# EAGLE library part M-064319 (library con-erni)
50 pol. male SMC CONNECTOR vertical , type Q, low profile Source: http://www.erni.com/DB/PDF-Drawing/SMC/064319.pdf
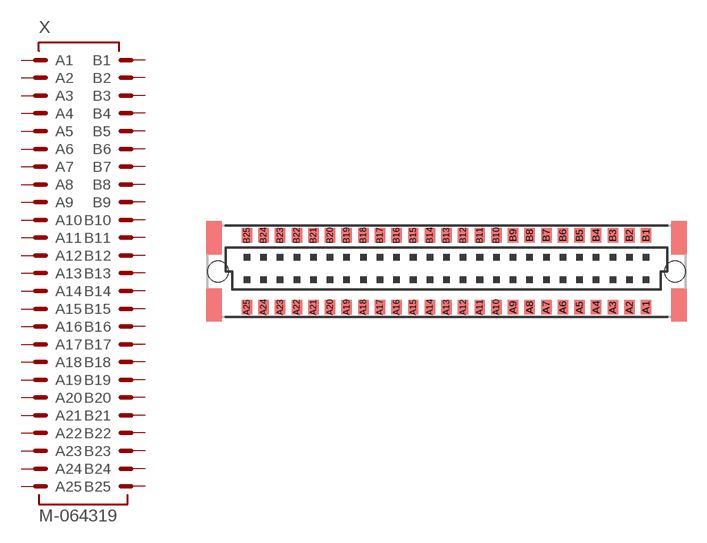
[diagram p12: symbol with the pads of M-064319; footprint M-064319]

Designator prefix X

## M-064319 (OC_FARNELL: unknown; OC_NEWARK: unknown)  [M-064319]
A1  A1  pas
A2  A2  pas
A3  A3  pas
A4  A4  pas
A5  A5  pas
A6  A6  pas
A7  A7  pas
A8  A8  pas
A9  A9  pas
A10  A10  pas
A11  A11  pas
A12  A12  pas
A13  A13  pas
A14  A14  pas
A15  A15  pas
A16  A16  pas
A17  A17  pas
A18  A18  pas
A19  A19  pas
A20  A20  pas
A21  A21  pas
A22  A22  pas
A23  A23  pas
A24  A24  pas
A25  A25  pas
B1  B1  pas
B2  B2  pas
B3  B3  pas
B4  B4  pas
B5  B5  pas
B6  B6  pas
B7  B7  pas
B8  B8  pas
B9  B9  pas
B10  B10  pas
B11  B11  pas
B12  B12  pas
B13  B13  pas
B14  B14  pas
B15  B15  pas
B16  B16  pas
B17  B17  pas
B18  B18  pas
B19  B19  pas
B20  B20  pas
B21  B21  pas
B22  B22  pas
B23  B23  pas
B24  B24  pas
B25  B25  pas

## Footprint M-064319 (pad centres in mm)
50 pol. male SMC CONNECTOR vertical , type Q, low profile Source: http://www.erni.com/DB/PDF-Drawing/SMC/064319.pdf
smd 0.8 x 1.1: A1 15.24,-2.75; A2 13.97,-2.75; A3 12.7,-2.75; A4 11.43,-2.75; A5 10.16,-2.75; A6 8.89,-2.75; A7 7.62,-2.75; A8 6.35,-2.75; A9 5.08,-2.75; A10 3.81,-2.75; A11 2.54,-2.75; A12 1.27,-2.75; A13 0,-2.75; A14 -1.27,-2.75; A15 -2.54,-2.75; A16 -3.81,-2.75; A17 -5.08,-2.75; A18 -6.35,-2.75; A19 -7.62,-2.75; A20 -8.89,-2.75; A21 -10.16,-2.75; A22 -11.43,-2.75; A23 -12.7,-2.75; A24 -13.97,-2.75; A25 -15.24,-2.75; B1 15.24,2.75; B2 13.97,2.75; B3 12.7,2.75; B4 11.43,2.75; B5 10.16,2.75; B6 8.89,2.75; B7 7.62,2.75; B8 6.35,2.75; B9 5.08,2.75; B10 3.81,2.75; B11 2.54,2.75; B12 1.27,2.75; B13 0,2.75; B14 -1.27,2.75; B15 -2.54,2.75; B16 -3.81,2.75; B17 -5.08,2.75; B18 -6.35,2.75; B19 -7.62,2.75; B20 -8.89,2.75; B21 -10.16,2.75; B22 -11.43,2.75; B23 -12.7,2.75; B24 -13.97,2.75; B25 -15.24,2.75
hole 1.6 at 17.45,0
hole 1.6 at -17.45,0